# Altium schematic symbol library Schematic_Library.SchLib: 35 symbols
Pins are listed as number, name and electrical type; pins without a type are passive.

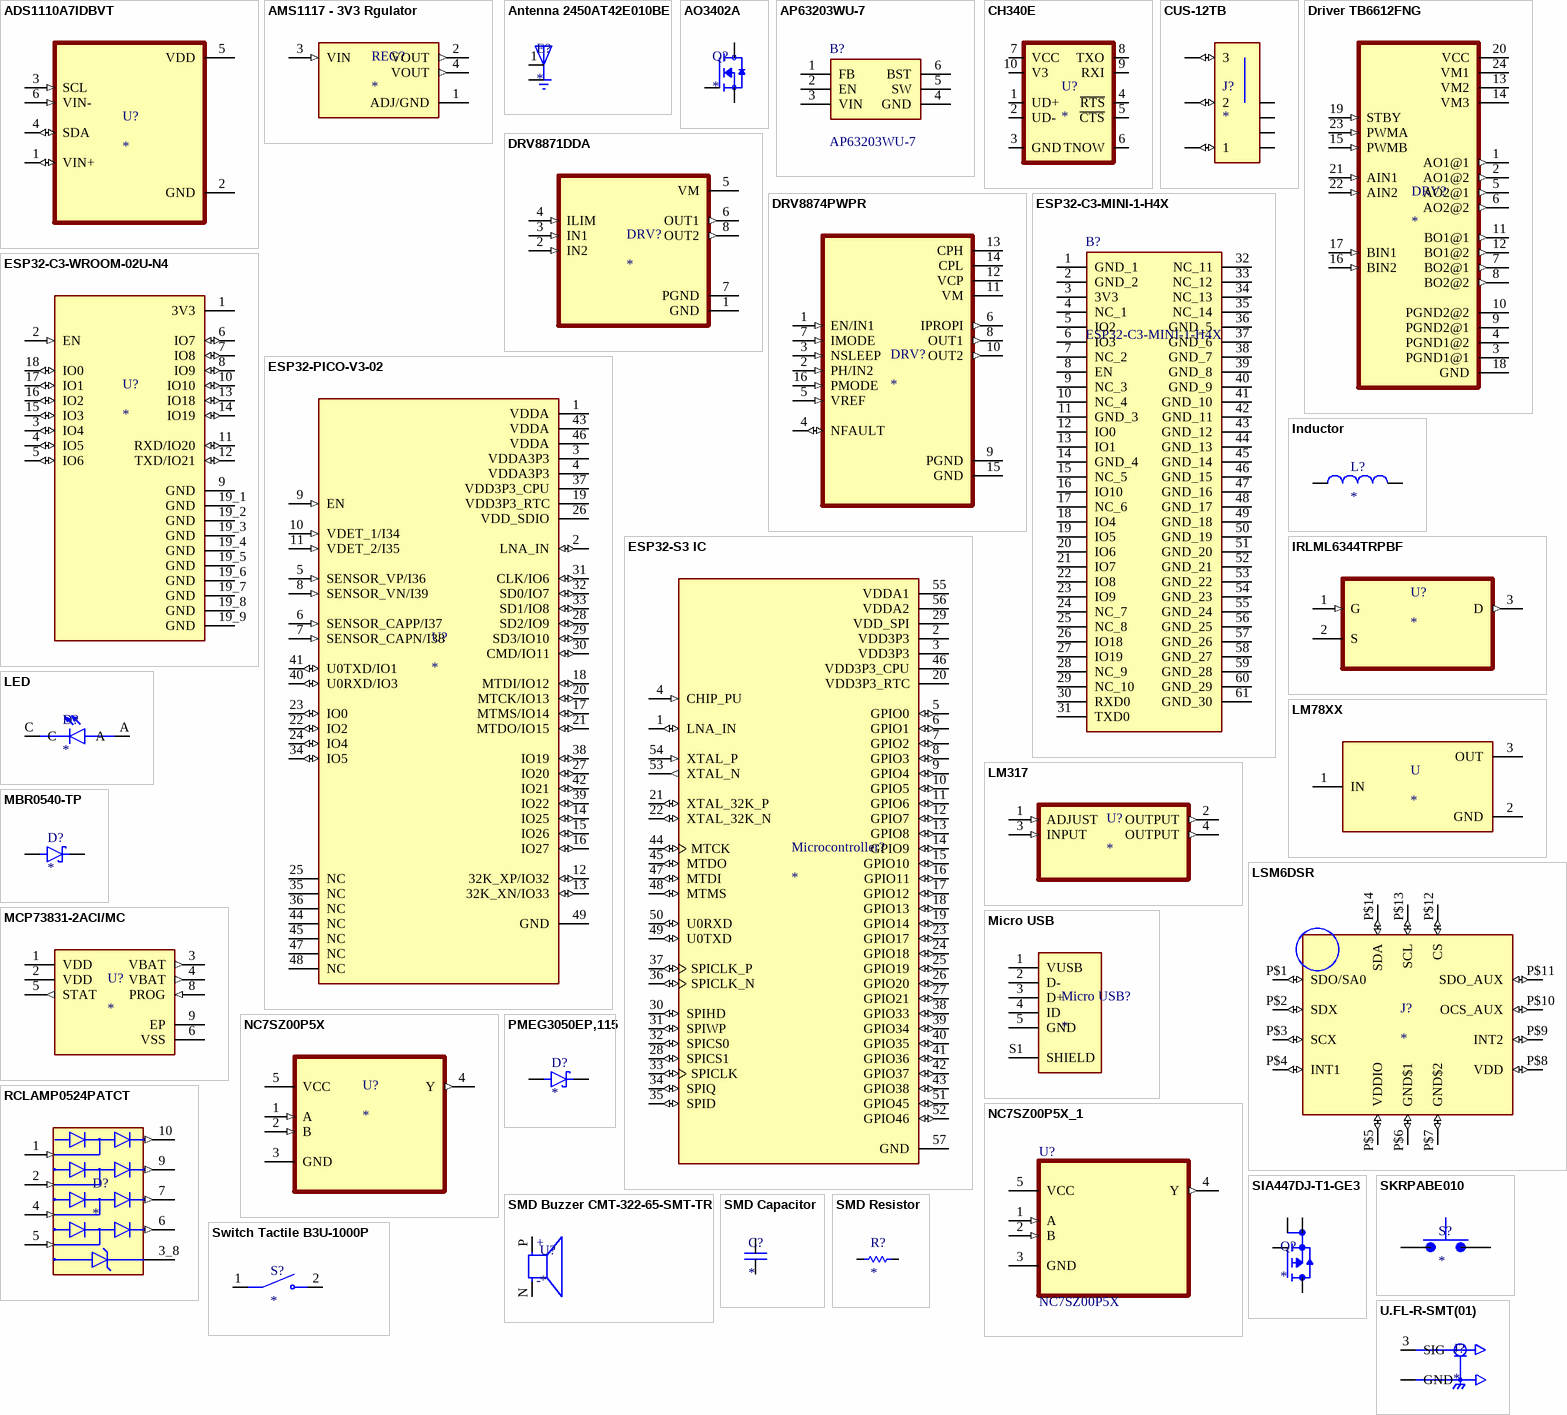
[diagram p0: symbols ADS1110A7IDBVT to U.FL-R-SMT(01)]

## ADS1110A7IDBVT
designator U?
16-Bit 240SPS 1-Ch Delta-Sigma ADC With PGA, Oscillator, Voltage Reference, and I2C; MF: Texas Instruments; MP: ADS1110A7IDBVT; SnapEDA_Link: https://www.snapeda.com/parts/ADS1110A7IDBVT/Texas+Instruments/view-part/?ref=snap; Package: SOT-23-6 Texas Instruments; Value: *; Check_prices: https://www.snapeda.com/parts/ADS1110A7IDBVT/Texas+Instruments/view-part/?ref=eda
footprint SOT95P280X145-6N
pins: 1 VIN+ (io), 2 GND (power), 3 SCL (in), 4 SDA (io), 5 VDD (power), 6 VIN- (in)

## AMS1117 - 3V3 Rgulator
designator REG?
1A LOW DROPOUT VOLTAGE REGULATOR SOT-223; MP: AMS1117; MF: Advanced Monolithic Systems; Price: None; Availability: Not in stock; Package: SOT-223 Seeed Technology; Value: *; SnapEDA_Link: https://www.snapeda.com/parts/AMS1117/Advanced+Monolithic+Systems/view-part/?ref=snap; Check_prices: https://www.snapeda.com/parts/AMS1117/Advanced+Monolithic+Systems/view-part/?ref=eda
footprint AMS1117 - 3V3 Regulator (1A LOW DROPOUT VOLTAGE REGULATOR SOT-223)
pins: 1 ADJ/GND (power), 2 VOUT (out), 3 VIN (in), 4 VOUT (out)

## Antenna 2450AT42E010BE
designator E?
2.4GHz Bluetooth, WLAN, Zigbeeâ„¢ Chip RF Antenna 2.4GHz ~ 2.48GHz -2dBi Solder Surface Mount; MF: Johanson Technology; MP: 2450AT42E010BE; SnapEDA_Link: https://www.snapeda.com/parts/2450AT42E010BE/Johanson/view-part/?ref=snap; Package: FBGA-780 Johanson; Value: *; Check_prices: https://www.snapeda.com/parts/2450AT42E010BE/Johanson/view-part/?ref=eda
footprint SMD Antenna XDCR_2450AT42E010BE
pins: 1 FEEDING, 3 GND (power), 4 GND (power)

## AO3402A
designator Q?
N-Channel 30 V 9.3A (Ta) 1.4W (Ta) Surface Mount SOT-23-3; MF: Alpha & Omega Semiconductor; MP: AO3400A; SnapEDA_Link: https://www.snapeda.com/parts/AO3400A/Alpha/view-part/?ref=snap; Package: SOT-23 Alpha &amp; Omega Semiconductor Inc.; Value: *; Check_prices: https://www.snapeda.com/parts/AO3400A/Alpha/view-part/?ref=eda
footprint SOT95P280X125-3N
pins: 1 G, 2 S, 3 D

## AP63203WU-7
designator B?
Switching Voltage Regulators DCDC Conv HV Buck TSOT26 T&R 3K; Manufacturer_Name: Diodes Incorporated; Geometry.Height: 1mm; Manufacturer_Part_Number: AP63203WU-7; Mouser Part Number: 621-AP63203WU-7; Mouser Price/Stock: https://www.mouser.co.uk/ProductDetail/Diodes-Incorporated/AP63203WU-7?qs=u16ybLDytRZ1JqxbuLkMJw%3D%3D; Arrow Part Number: AP63203WU-7; Arrow Price/Stock: https://www.arrow.com/en/products/ap63203wu-7/diodes-incorporated?utm_currency=USD&region=europe; Datasheet Link: https://www.diodes.com/assets/Datasheets/AP63200-AP63201-AP63203-AP63205.pdf
footprint AP63203WU7
pins: 1 FB, 2 EN, 3 VIN, 4 GND, 5 SW, 6 BST

## CH340E
designator U?
USB to serial chip CH340; MF: WCH; MP: CH340E; SnapEDA_Link: https://www.snapeda.com/parts/CH340E/WCH/view-part/?ref=snap; Package: Package; Value: *; Check_prices: https://www.snapeda.com/parts/CH340E/WCH/view-part/?ref=eda
footprint MSOP10
pins: 1 UD+ (io), 2 UD- (io), 3 GND (io), 4 ~{RTS} (io), 5 ~{CTS} (io), 6 TNOW (io), 7 VCC (io), 8 TXO (io), 9 RXI (io), 10 V3 (io)

## CUS-12TB
designator J?
Slide Switch SPDT Surface Mount, Right Angle; MF: Nidec Copal; MP: CUS-12TB; SnapEDA_Link: https://www.snapeda.com/parts/CUS-12TB/Nidec/view-part/?ref=snap; Package: None; Value: *; Check_prices: https://www.snapeda.com/parts/CUS-12TB/Nidec/view-part/?ref=eda
footprint CUS-12B
pins: P$1 1 (io), P$2 2 (io), P$3 3 (io), P$4 GND@1 (power), P$5 GND@2 (power), P$6 GND@3 (power), P$7 GND@4 (power)

## Driver TB6612FNG
designator DRV?
- Motor Driver Power MOSFET Parallel 24-SSOP; MP: TB6612FNG,C,8,EL; MF: Toshiba; SnapEDA_Link: https://www.snapeda.com/parts/TB6612FNG,C,8,EL/Toshiba+Semiconductor+and+Storage/view-part/?ref=snap; Package: SSOP-24 Toshiba; Check_prices: https://www.snapeda.com/parts/TB6612FNG,C,8,EL/Toshiba+Semiconductor+and+Storage/view-part/?ref=eda; Purchase-URL: https://pricing.snapeda.com/search/part/TB6612FNG,C,8,EL/?ref=eda; Price: None; Value: *; Availability: In Stock
footprint Driver TB6612FNG
pins: 1 AO1@1 (out), 2 AO1@2 (out), 3 PGND1@1, 4 PGND1@2, 5 AO2@1 (out), 6 AO2@2 (out), 7 BO2@1 (out), 8 BO2@2 (out), 9 PGND2@1, 10 PGND2@2, 11 BO1@1 (out), 12 BO1@2 (out), 13 VM2 (power), 14 VM3 (power), 15 PWMB (in), 16 BIN2 (in), 17 BIN1 (in), 18 GND, 19 STBY (in), 20 VCC (power), 21 AIN1 (in), 22 AIN2 (in), 23 PWMA (in), 24 VM1 (power)

## DRV8871DDA
designator DRV?
45-V, 3.6-A H-bridge motor driver with integrated current sensing 8-SO PowerPAD -40 to 125; MP: DRV8871DDA; MF: Texas Instruments; Mouser-Purchase-URL: https://snapeda.com/shop?store=Mouser&id=547750; SnapEDA_Link: https://www.snapeda.com/parts/DRV8871DDA/Texas%20Instruments/view-part/547750/?ref=snap; DigiKey-Purchase-URL: https://snapeda.com/shop?store=DigiKey&id=547750; Arrow_Electronics-Purchase-URL: https://snapeda.com/shop?store=Arrow+Electronics&id=547750; Texas_Instruments-Purchase-URL: https://snapeda.com/shop?store=Texas+Instruments&id=547750; Availability: Good; Price: None; Value: *; Package: HSOIC-8 Texas Instruments
footprint DRV8871DDA (Footprint not found)
pins: 1 GND (power), 2 IN2 (in), 3 IN1 (in), 4 ILIM (in), 5 VM (power), 6 OUT1 (out), 7 PGND (power), 8 OUT2 (out)

## DRV8874PWPR
designator DRV?
40-V, 6-A H-bridge motor driver with integrated current sensing feedback; MP: DRV8874PWPR; MF: Texas Instruments; Price: None; Availability: In Stock; Package: HTSSOP-16 Texas Instruments; Value: *; SnapEDA_Link: https://www.snapeda.com/parts/DRV8874PWPR/Texas+Instruments/view-part/?ref=snap; Purchase-URL: https://pricing.snapeda.com/search/part/DRV8874PWPR/?ref=eda; Check_prices: https://www.snapeda.com/parts/DRV8874PWPR/Texas+Instruments/view-part/?ref=eda
footprint DRV8874PWPR
pins: 1 EN/IN1 (in), 2 PH/IN2 (in), 3 NSLEEP (in), 4 NFAULT (io), 5 VREF (in), 6 IPROPI (out), 7 IMODE (in), 8 OUT1 (out), 9 PGND (power), 10 OUT2 (out), 11 VM (power), 12 VCP (power), 13 CPH (power), 14 CPL (power), 15 GND (power), 16 PMODE (in)

## ESP32-C3-MINI-1-H4X
designator B?
Bluetooth, WiFi 802.11b/g/n, Bluetooth v5.0 Transceiver Module 2.412GHz ~ 2.484GHz PCB Trace Surface Mount; Manufacturer_Name: Espressif Systems; Geometry.Height: 2.55mm; Manufacturer_Part_Number: ESP32-C3-MINI-1-H4X; Mouser Part Number: 356-ESP32C3MINI1H4X; Mouser Price/Stock: https://www.mouser.co.uk/ProductDetail/Espressif-Systems/ESP32-C3-MINI-1-H4X?qs=olJun0bQHM%252Bm8wbucOd%2FlA%3D%3D; Arrow Part Number: *; Arrow Price/Stock: *; Datasheet Link: https://www.mouser.com/catalog/specsheets/Espressif_Systems_esp32-c3-mini-1_datasheet_en.pdf
footprint ESP32C3MINI1H4X
pins: 1 GND_1, 2 GND_2, 3 3V3, 4 NC_1, 5 IO2, 6 IO3, 7 NC_2, 8 EN, 9 NC_3, 10 NC_4, 11 GND_3, 12 IO0, 13 IO1, 14 GND_4, 15 NC_5, 16 IO10, 17 NC_6, 18 IO4, 19 IO5, 20 IO6, 21 IO7, 22 IO8, 23 IO9, 24 NC_7, 25 NC_8, 26 IO18, 27 IO19, 28 NC_9, 29 NC_10, 30 RXD0, 31 TXD0, 32 NC_11, 33 NC_12, 34 NC_13, 35 NC_14, 36 GND_5, 37 GND_6, 38 GND_7, 39 GND_8, 40 GND_9, 41 GND_10, 42 GND_11, 43 GND_12, 44 GND_13, 45 GND_14, 46 GND_15, 47 GND_16, 48 GND_17, 49 GND_18, 50 GND_19, 51 GND_20, 52 GND_21, 53 GND_22, 54 GND_23, 55 GND_24, 56 GND_25, 57 GND_26, 58 GND_27, 59 GND_28, 60 GND_29, 61 GND_30

## ESP32-C3-WROOM-02U-N4
designator U?
Bluetooth, WiFi 802.11b/g/n, Bluetooth v5.0 Transceiver Module 2.4GHz Antenna Not Included, U.FL Surface Mount; MF: Espressif Systems; MP: ESP32-C3-WROOM-02U-N4; SnapEDA_Link: https://www.snapeda.com/parts/ESP32-C3-WROOM-02U-N4/Espressif+Systems/view-part/?ref=snap; Package: SMD-19 Espressif Systems; Value: *; Check_prices: https://www.snapeda.com/parts/ESP32-C3-WROOM-02U-N4/Espressif+Systems/view-part/?ref=eda
footprint XCVR_ESP32-C3-WROOM-02U-N4
pins: 1 3V3 (power), 2 EN (in), 3 IO4 (io), 4 IO5 (io), 5 IO6 (io), 6 IO7 (io), 7 IO8 (io), 8 IO9 (io), 9 GND (power), 10 IO10 (io), 11 RXD/IO20 (io), 12 TXD/IO21 (io), 13 IO18 (io), 14 IO19 (io), 15 IO3 (io), 16 IO2 (io), 17 IO1 (io), 18 IO0 (io), 19_1 GND (power), 19_2 GND (power), 19_3 GND (power), 19_4 GND (power), 19_5 GND (power), 19_6 GND (power), 19_7 GND (power), 19_8 GND (power), 19_9 GND (power)

## ESP32-PICO-V3-02
designator U?
Bluetooth, WiFi 802.11b/g/n, Bluetooth v4.2 Transceiver Module 2.412GHz ~ 2.484GHz Antenna Not Included, I-PEX Surface Mount; MF: Espressif Systems; MP: ESP32-PICO-V3-02; SnapEDA_Link: https://www.snapeda.com/parts/ESP32-PICO-V3-02/Espressif+Systems/view-part/?ref=snap; Package: LFQFN-48 Espressif Systems; Value: *; Check_prices: https://www.snapeda.com/parts/ESP32-PICO-V3-02/Espressif+Systems/view-part/?ref=eda
footprint XCVR_ESP32-PICO-V3-02
pins: 1 VDDA (power), 2 LNA_IN (io), 3 VDDA3P3 (power), 4 VDDA3P3 (power), 5 SENSOR_VP/I36 (in), 6 SENSOR_CAPP/I37 (in), 7 SENSOR_CAPN/I38 (in), 8 SENSOR_VN/I39 (in), 9 EN (in), 10 VDET_1/I34 (in), 11 VDET_2/I35 (in), 12 32K_XP/IO32 (io), 13 32K_XN/IO33 (io), 14 IO25 (io), 15 IO26 (io), 16 IO27 (io), 17 MTMS/IO14 (io), 18 MTDI/IO12 (io), 19 VDD3P3_RTC (power), 20 MTCK/IO13 (io), 21 MTDO/IO15 (io), 22 IO2 (io), 23 IO0 (io), 24 IO4 (io), 25 NC, 26 VDD_SDIO (power), 27 IO20 (io), 28 SD2/IO9 (io), 29 SD3/IO10 (io), 30 CMD/IO11 (io), 31 CLK/IO6 (io), 32 SD0/IO7 (io), 33 SD1/IO8 (io), 34 IO5 (io), 35 NC, 36 NC, 37 VDD3P3_CPU (power), 38 IO19 (io), 39 IO22 (io), 40 U0RXD/IO3 (io), 41 U0TXD/IO1 (io), 42 IO21 (io), 43 VDDA (power), 44 NC, 45 NC, 46 VDDA (power), 47 NC, 48 NC, 49 GND (power)

## ESP32-S3 IC
designator Microcontroller?
IC RF TxRx + MCU Bluetooth, WiFi 802.11b/g/n, Bluetooth v5.0 2.412GHz ~ 2.484GHz 56-VFQFN Exposed Pad; MF: Espressif Systems; MP: ESP32-S3; Check_prices: https://www.snapeda.com/parts/ESP32-S3/Espressif+Systems/view-part/?ref=eda; Purchase-URL: https://pricing.snapeda.com/search/part/ESP32-S3/?ref=eda; Value: *; Availability: In Stock; Package: None; SnapEDA_Link: https://www.snapeda.com/parts/ESP32-S3/Espressif+Systems/view-part/?ref=snap; Price: None
footprint ESP32-S3 (IC)
pins: 1 LNA_IN (io), 2 VDD3P3 (power), 3 VDD3P3 (power), 4 CHIP_PU (in), 5 GPIO0 (io), 6 GPIO1 (io), 7 GPIO2 (io), 8 GPIO3 (io), 9 GPIO4 (io), 10 GPIO5 (io), 11 GPIO6 (io), 12 GPIO7 (io), 13 GPIO8 (io), 14 GPIO9 (io), 15 GPIO10 (io), 16 GPIO11 (io), 17 GPIO12 (io), 18 GPIO13 (io), 19 GPIO14 (io), 20 VDD3P3_RTC (power), 21 XTAL_32K_P (io), 22 XTAL_32K_N (io), 23 GPIO17 (io), 24 GPIO18 (io), 25 GPIO19 (io), 26 GPIO20 (io), 27 GPIO21 (io), 28 SPICS1 (io), 29 VDD_SPI (power), 30 SPIHD (io), 31 SPIWP (io), 32 SPICS0 (io), 33 SPICLK (io), 34 SPIQ (io), 35 SPID (io), 36 SPICLK_N (io), 37 SPICLK_P (io), 38 GPIO33 (io), 39 GPIO34 (io), 40 GPIO35 (io), 41 GPIO36 (io), 42 GPIO37 (io), 43 GPIO38 (io), 44 MTCK (io), 45 MTDO (io), 46 VDD3P3_CPU (power), 47 MTDI (io), 48 MTMS (io), 49 U0TXD (io), 50 U0RXD (io), 51 GPIO45 (io), 52 GPIO46 (io), 53 XTAL_N (out), 54 XTAL_P (in), 55 VDDA1 (power), 56 VDDA2 (power), 57 GND (power)

## Inductor
designator L?
MP: LQW15AN47NG8ZD; Package: None; Price: None; Value: *; Availability: Unavailable
footprint SMD Inductor 402
pins: 1, 2

## IRLML6344TRPBF
designator U?
IRLML6344TRPBF N-channel MOSFET Transistor, 5 A, 30 V, 3-Pin SOT-23 | Infineon IRLML6344TRPBF; MF: Infineon Technologies; SnapEDA_Link: https://www.snapeda.com/parts/IRLML6344TRPBF/Infineon/view-part/?ref=snap; Package: SOT-23-3 ON Semiconductor; Value: *; MP: IRLML6344TRPBF; Check_prices: https://www.snapeda.com/parts/IRLML6344TRPBF/Infineon/view-part/?ref=eda
footprint SOT95P240X112-3N
pins: 1 G (in), 2 S, 3 D (out)

## LED
designator D?
LED Indication - Discrete 1.9V 0402 _1006 Metric_; MF: Rohm; MP: SML-P11MTT86; Price: None; Availability: Unavailable; SnapEDA_Link: https://www.snapeda.com/parts/SML-P11MTT86/Rohm/view-part/351211/?ref=snap; Value: *; Package: 0402 Rohm
footprint SMD LED 402
pins: A, C

## LM78XX
designator U
Linear Voltage Regulator IC 1 Output 1.5A DDPAK/TO-263-3; MP: LM7805S/NOPB; MF: Texas Instruments; Price: None; Package: TO-263 Texas Instruments; Value: *; Availability: Unavailable; SnapEDA_Link: https://www.snapeda.com/parts/LM7805S/NOPB/Texas%20Instruments/view-part/546227/?ref=snap
footprint SMD LM78XX (TO-92)
footprint THT LM78XX
pins: 1 IN (power), 2 GND (power), 3 OUT (power)

## LM317
designator U?
1.5-A, 40-V, adjustable linear voltage regulator 4-SOT-223 0 to 125; MF: Texas Instruments; MP: LM317DCYG3; SnapEDA_Link: https://www.snapeda.com/parts/LM317DCYG3/Texas+Instruments/view-part/?ref=snap; Package: SOT-223-4 Texas Instruments; Value: *; Check_prices: https://www.snapeda.com/parts/LM317DCYG3/Texas+Instruments/view-part/?ref=eda; ComponentLink1Description: New link; ComponentLink1URL: https://lcsc.com/datasheet/lcsc_datasheet_2410121951_Texas-Instruments-LM317AEMPX-NOPB_C68487.pdf
footprint LM317 SOT23
pins: 1 ADJUST (in), 2 OUTPUT (out), 3 INPUT (in), 4 OUTPUT (out)

## LSM6DSR
designator J?
Accelerometer, Gyroscope, Temperature, 6 Axis Sensor IÂ²C, SPI Output; MF: STMicroelectronics; MP: LSM6DSR; SnapEDA_Link: https://www.snapeda.com/parts/LSM6DSR/STMicroelectronics/view-part/?ref=snap; Package: None; Value: *; Check_prices: https://www.snapeda.com/parts/LSM6DSR/STMicroelectronics/view-part/?ref=eda
footprint LSM6DSR
pins: P$1 SDO/SA0 (io), P$2 SDX (io), P$3 SCX (io), P$4 INT1 (io), P$5 VDDIO (io), P$6 GND$1 (io), P$7 GND$2 (io), P$8 VDD (io), P$9 INT2 (io), P$10 OCS_AUX (io), P$11 SDO_AUX (io), P$12 CS (io), P$13 SCL (io), P$14 SDA (io)

## MBR0540-TP
designator D?
Diode Schottky 40 V 500mA Surface Mount SOD-123; MF: Micro Commercial; MP: MBR0540-TP; SnapEDA_Link: https://www.snapeda.com/parts/MBR0540-TP/Micro+Commercial+Components/view-part/?ref=snap; Package: SOD-123 Multicomp; Value: *; Check_prices: https://www.snapeda.com/parts/MBR0540-TP/Micro+Commercial+Components/view-part/?ref=eda
footprint DIO_MBR0540-TP
pins: A, C K

## MCP73831-2ACI/MC
designator U?
Charge Controller Li-Ion/Li-Pol 15mA to 500mA 4.2V 8-Pin DFN EP | Microchip Technology Inc. MCP73831-2ACI/MC; SnapEDA_Link: https://www.snapeda.com/parts/MCP73831-2ACI/MC/Microchip/view-part/?ref=snap; Package: VFDFN-8 Microchip; Value: *; MF: Microchip; MP: MCP73831-2ACI/MC; Check_prices: https://www.snapeda.com/parts/MCP73831-2ACI/MC/Microchip/view-part/?ref=eda
footprint MCP73831-2ACI/MC
pins: 1 VDD (power), 2 VDD (power), 3 VBAT (out), 4 VBAT (out), 5 STAT (out), 6 VSS (power), 8 PROG (in), 9 EP (power)

## Micro USB
designator Micro USB?
USB - micro B USB 2.0 Receptacle Connector 5 Position Surface Mount, Right Angle; Through Hole; MP: 10118193-0001LF; MF: Amphenol ICC; Availability: Unavailable; SnapEDA_Link: https://www.snapeda.com/parts/10118193-0001LF/Amphenol%20FCI/view-part/2758989/?ref=snap; Price: None; Value: *; Package: None
footprint Micro USB
pins: 1 VUSB, 2 D-, 3 D+, 4 ID, 5 GND, S1 SHIELD

## NC7SZ00P5X
designator U?
NAND Gate 1-Element 2-IN CMOS 5-Pin SC-88A T/R; MF: ON Semiconductor / Fairchild; MP: NC7SZ00P5X; SnapEDA_Link: https://www.snapeda.com/parts/NC7SZ00P5X/Fairchild+Semiconductor/view-part/?ref=snap; Package: SC-88A-5 ON Semiconductor; Value: *; Check_prices: https://www.snapeda.com/parts/NC7SZ00P5X/Fairchild+Semiconductor/view-part/?ref=eda
footprint SOT65P210X110-5N
pins: 1 A (in), 2 B (in), 3 GND, 4 Y (out), 5 VCC (power)

## NC7SZ00P5X_1
designator U?, comment NC7SZ00P5X
NAND Gate 1-Element 2-IN CMOS 5-Pin SC-88A T/R; MF: ON Semiconductor / Fairchild; SnapEDA_Link: https://www.snapeda.com/parts/NC7SZ00P5X/Fairchild+Semiconductor/view-part/?ref=snap; Package: SC-88A-5 ON Semiconductor; Value: *; MP: NC7SZ00P5X; Check_prices: https://www.snapeda.com/parts/NC7SZ00P5X/Fairchild+Semiconductor/view-part/?ref=eda
footprint SOT65P210X110-5N
pins: 1 A (in), 2 B (in), 3 GND, 4 Y (out), 5 VCC (power)

## PMEG3050EP,115
designator D?
<a href="https://pricing.snapeda.com/parts/PMEG3050EP%2C115/Nexperia%20USA%20Inc./view-part?ref=eda">Check availability</a>; MF: {'manufacturer': u'Nexperia USA Inc.'}; MP: PMEG3050EP,115; Package: None; Price: None; Value: *; Availability: Unavailable
footprint DIO_PMEG3050EP,115
pins: A, K

## RCLAMP0524PATCT
designator D?
15V Clamp 5A (8/20Âµs) Ipp Tvs Diode Surface Mount SLP2510P8; MF: Semtech Corporation; MP: RCLAMP0524PATCT; SnapEDA_Link: https://www.snapeda.com/parts/RCLAMP0524PATCT/Semtech+Corporation/view-part/?ref=snap; Package: UFDFN-10 Semtech; Value: *; Check_prices: https://www.snapeda.com/parts/RCLAMP0524PATCT/Semtech+Corporation/view-part/?ref=eda
footprint DIO_RCLAMP0524PATCT
pins: 1 IN1 (in), 2 IN2 (in), 3_8 GROUND (power), 4 IN4 (in), 5 IN5 (in), 6 OUT6 (out), 7 OUT7 (out), 9 OUT9 (out), 10 OUT10 (out)

## SIA447DJ-T1-GE3
designator Q?
P-Channel 12V 12A (Tc) 19W (Tc) Surface Mount PowerPAKÂ® SC-70-6 Single; MF: Vishay Siliconix; MP: SIA447DJ-T1-GE3; SnapEDA_Link: https://www.snapeda.com/parts/SIA447DJ-T1-GE3/Vishay/view-part/?ref=snap; Package: SC-70-6 Vishay; Value: *; Check_prices: https://www.snapeda.com/parts/SIA447DJ-T1-GE3/Vishay/view-part/?ref=eda
footprint TRANS_SIA447DJ-T1-GE3
pins: 1_2_5_6 D, 3 G, 4 S1, 7 S2

## SKRPABE010
designator S?
Switch Tactile N.O. SPST Button J-Bend 0.05A 16VDC 1.57N SMD Automotive T/R; MF: ALPS; MP: SKRPABE010; SnapEDA_Link: https://www.snapeda.com/parts/SKRPABE010/ALPS/view-part/?ref=snap; Package: None; Value: *; Check_prices: https://www.snapeda.com/parts/SKRPABE010/ALPS/view-part/?ref=eda
footprint SW_SKRPABE010
pins: 1, 2 1, 3 2, 4 2

## SMD Buzzer CMT-322-65-SMT-TR
designator U?
3.2 mm, 3 Vo-p, 65 dB, Surface Mount (SMT), Magnetic Audio Transducer Buzzer; MF: Same Sky; MP: CMT-322-65-SMT-TR; SnapEDA_Link: https://www.snapeda.com/parts/CMT-322-65-SMT-TR/Same+Sky/view-part/?ref=snap; Package: None; Value: *; Check_prices: https://www.snapeda.com/parts/CMT-322-65-SMT-TR/Same+Sky/view-part/?ref=eda
footprint XDCR_CMT-322-65-SMT-TR
pins: N, P
text: +; -

## SMD Capacitor
designator C?
ceramic smd capacitor; MP: 885012208018; Package: None; Price: None; Value: *; Availability: Unavailable
footprint SMD Resistor/Capacito (402)
footprint SMD Resistor/Capacitor (603)
footprint SMD Resistor/Capacitor (805)
footprint SMD Resistor/Capacitor (1206)
pins: 1, 2

## SMD Resistor
designator R?
MP: RN731ETTP50R0F50; Package: None; Price: None; Value: *; Availability: Unavailable
footprint SMD Resistor/Capacito (402)
footprint SMD Resistor/Capacitor (603)
footprint SMD Resistor/Capacitor (805)
footprint SMD Resistor/Capacitor (1206)
pins: 1, 2

## Switch Tactile B3U-1000P
designator S?
Switch Tactile N.O. SPST Round Button Gull Wing 0.05A 12VDC 1.5N SMD Embossed T/R; MP: B3U-1000P; Price: None; Availability: Unavailable; Value: *; Package: None
footprint SW_B3U-1000P
pins: 1, 2

## U.FL-R-SMT(01)
designator J?
U.FL (UMCC) Connector Receptacle, Male Pin 50Ohm Surface Mount Solder. RF Connectors / Coaxial Connectors; MP: U.FL-R-SMT(01); MF: Hirose; Check_prices: https://www.snapeda.com/parts/U.FL-R-SMT(01)/Hirose+Electric+Co+Ltd/view-part/?ref=eda; Value: *; Availability: In Stock; Price: None; Package: None; SnapEDA_Link: https://www.snapeda.com/parts/U.FL-R-SMT(01)/Hirose+Electric+Co+Ltd/view-part/?ref=snap; Purchase-URL: https://pricing.snapeda.com/search/part/U.FL-R-SMT(01)/?ref=eda
footprint HRS_U.FL-R-SMT(01)
pins: 1 GND, 2 GND, 3 SIG

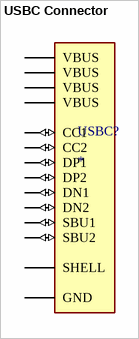
[diagram p1: symbol USBC Connector]

## USBC Connector
designator USBC?
USB-C (USB TYPE-C) USB 2.0 24 (16+8 Dummy); MF: Global Connector Technology; MP: USB4085-GF-A; SnapEDA_Link: https://www.snapeda.com/parts/USB4085-GF-A/Global+Connector+Technology/view-part/?ref=snap; Package: None; Value: *; Check_prices: https://www.snapeda.com/parts/USB4085-GF-A/Global+Connector+Technology/view-part/?ref=eda
footprint THT USBC Connector
footprint SMD USBC Connector
pins: A4 VBUS (power), A5 CC1 (io), A6 DP1 (io), A7 DN1 (io), A8 SBU1 (io), A9 VBUS (power), B4 VBUS (power), B5 CC2 (io), B6 DP2 (io), B7 DN2 (io), B8 SBU2 (io), B9 VBUS (power), GND (power), S1 SHELL